# EAGLE library part CD4050B (library Pinoccio)
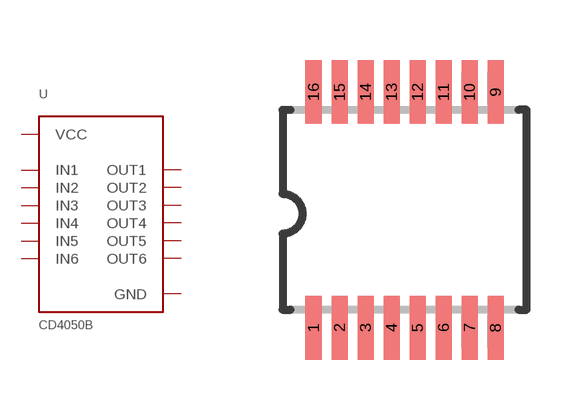
[diagram p32: symbol with the pads of TSSOP-16; footprint TSSOP-16]

Designator prefix -

## CD4050B  [TSSOP-16]
1  VCC
2  OUT1
3  IN1
4  OUT2
5  IN2
6  OUT3
7  IN3
8  GND
9  IN4
10  OUT4
11  IN5
12  OUT5
14  IN6
15  OUT6

## Footprint TSSOP-16 (pad centres in mm)
TSOP16 thin small outline package
smd 0.4 x 1.6: 1 -2.225,-2.85; 2 -1.575,-2.85; 3 -0.925,-2.85; 4 -0.275,-2.85; 5 0.375,-2.85; 6 1.025,-2.85; 7 1.675,-2.85; 8 2.325,-2.85; 9 2.325,3.05; 10 1.675,3.05; 11 1.025,3.05; 12 0.375,3.05; 13 -0.275,3.05; 14 -0.925,3.05; 15 -1.575,3.05; 16 -2.225,3.05